# Altium schematic symbol library Level_Shifter_Texas_Instruments_SN74LV1T34DBVRG4.SchLib: 1 symbol
Pins are listed as number, name and electrical type; pins without a type are passive.

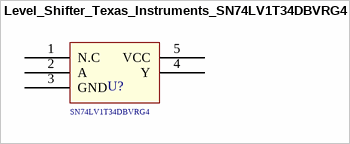
[diagram p0: symbol Level_Shifter_Texas_Instruments_SN74LV1T34DBVRG4]

## Level_Shifter_Texas_Instruments_SN74LV1T34DBVRG4
designator U?  Series: SN74LV1T34DBVRG4  (hidden comment: Level_Shifter_Texas_Instruments_SN74LV1T34DBVRG4)
Translation - Voltage Levels Single Power Supply BUFFER Logic Level Shifter (no enable) 5-SOT-23 -40 to 125; Supplier 1: Mouser; Supplier Part Number 1: 595-SN74LV1T34DBVRG4
footprint Level_Shifter_Texas_Instruments_SN74LV1T34DBVRG4
pins: 1 N.C, 2 A, 3 GND, 4 Y, 5 VCC